# EAGLE library part PCF8574T/3,512 (library 2022-03-20_19-57-37_Library)
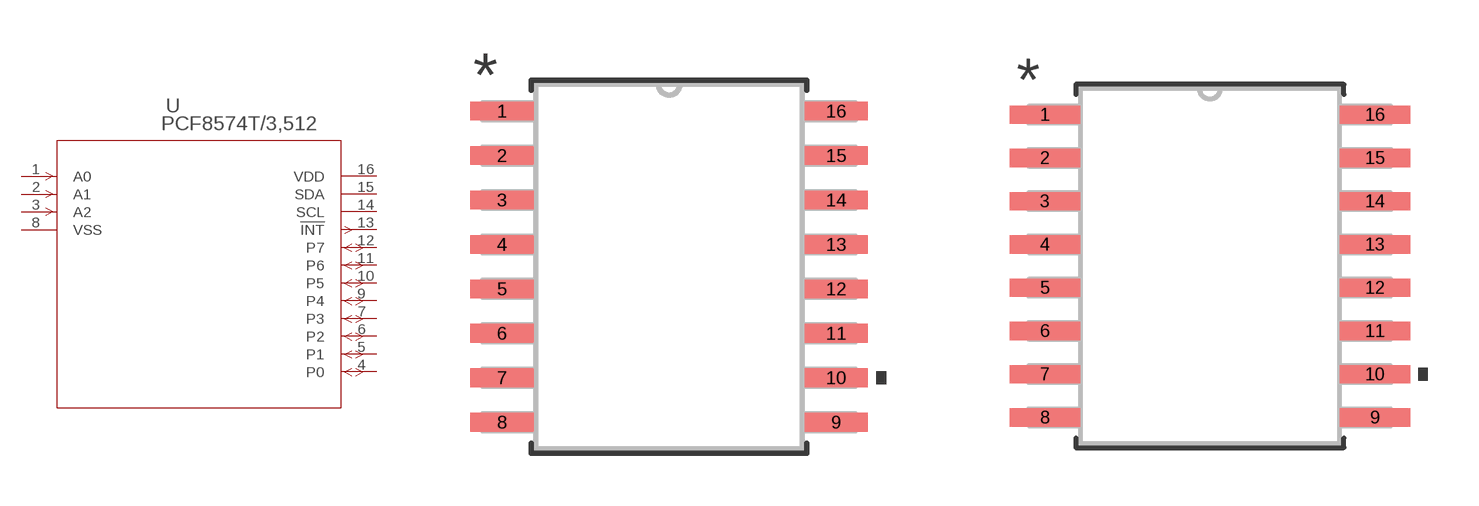
[diagram p0: symbol with the pads of SOT162-1_NXP; footprints SOT162-1_NXP, SOT162-1_NXP-M]

Designator prefix U

## PCF8574T/3,512SOT162-1_NXP (Copyright: Copyright (C) 2022 Ultra Librarian. All rights reserved.; Manufacturer_Part_Number: PCF8574T/3,512; Mfr_Name: NXP)  [SOT162-1_NXP]
1  A0  in
2  A1  in
3  A2  in
4  P0
5  P1
6  P2
7  P3
8  VSS  pwr
9  P4
10  P5
11  P6
12  P7
13  !INT  out
14  SCL  pas
15  SDA  pas
16  VDD  pwr

## PCF8574T/3,512SOT162-1_NXP-M (Copyright: Copyright (C) 2022 Ultra Librarian. All rights reserved.; Manufacturer_Part_Number: PCF8574T/3,512; Mfr_Name: NXP)  [SOT162-1_NXP-M]
Pads as for SOT162-1_NXP

## PCF8574T/3,512SOT162-1_NXP-L (Copyright: Copyright (C) 2022 Ultra Librarian. All rights reserved.; Manufacturer_Part_Number: PCF8574T/3,512; Mfr_Name: NXP)  [SOT162-1_NXP-L]
Pads as for SOT162-1_NXP

## Footprint SOT162-1_NXP (pad centres in mm)
smd 1.803 x 0.533: 1 -4.775,4.445; 2 -4.775,3.175; 3 -4.775,1.905; 4 -4.775,0.635; 5 -4.775,-0.635; 6 -4.775,-1.905; 7 -4.775,-3.175; 8 -4.775,-4.445; 9 4.775,-4.445; 10 4.775,-3.175; 11 4.775,-1.905; 12 4.775,-0.635; 13 4.775,0.635; 14 4.775,1.905; 15 4.775,3.175; 16 4.775,4.445

## Footprint SOT162-1_NXP-M (pad centres in mm)
smd 2.07 x 0.533: 1 -4.845,4.445; 2 -4.845,3.175; 3 -4.845,1.905; 4 -4.845,0.635; 5 -4.845,-0.635; 6 -4.845,-1.905; 7 -4.845,-3.175; 8 -4.845,-4.445; 9 4.845,-4.445; 10 4.845,-3.175; 11 4.845,-1.905; 12 4.845,-0.635; 13 4.845,0.635; 14 4.845,1.905; 15 4.845,3.175; 16 4.845,4.445

## Footprint SOT162-1_NXP-L (pad centres in mm)
smd 1.499 x 0.483: 1 -4.724,4.445; 2 -4.724,3.175; 3 -4.724,1.905; 4 -4.724,0.635; 5 -4.724,-0.635; 6 -4.724,-1.905; 7 -4.724,-3.175; 8 -4.724,-4.445; 9 4.724,-4.445; 10 4.724,-3.175; 11 4.724,-1.905; 12 4.724,-0.635; 13 4.724,0.635; 14 4.724,1.905; 15 4.724,3.175; 16 4.724,4.445